# EAGLE library part GW1NSR-4C (library Gowin)
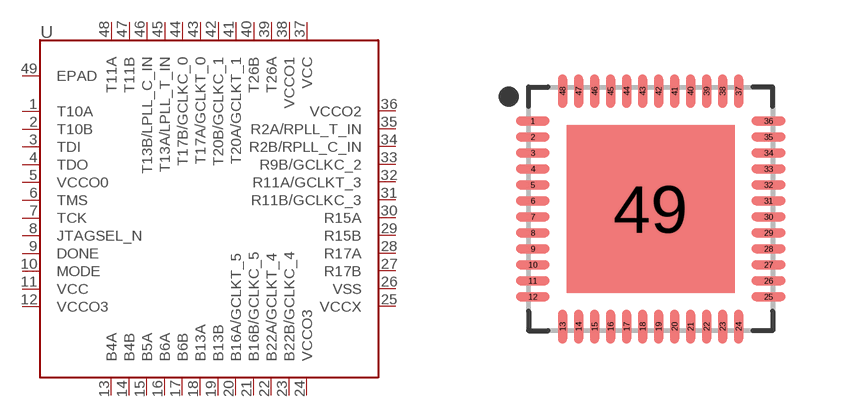
[diagram p0: symbol with the pads of QFN40P600X600X80-49T420N; footprint QFN40P600X600X80-49T420N]

Designator prefix -

## GW1NSR-4CQN48P  [QFN40P600X600X80-49T420N]
1  T10A
2  T10B
3  TDI
4  TDO
5  VCCO0
6  TMS
7  TCK
8  JTAGSEL_N
9  DONE
10  MODE
11  VCC
12  VCCO3
13  B4A
14  B4B
15  B5A
16  B6A
17  B6B
18  B13A
19  B13B
20  B16A/GCLKT_5
21  B16B/GCLKC_5
22  B22A/GCLKT_4
23  B22B/GCLKC_4
24  VCCO3
25  VCCX
26  VSS
27  R17B
28  R17A
29  R15B
30  R15A
31  R11B/GCLKC_3
32  R11A/GCLKT_3
33  R9B/GCLKC_2
34  R2B/RPLL_C_IN
35  R2A/RPLL_T_IN
36  VCCO2
37  VCC
38  VCCO1
39  T26A
40  T26B
41  T20A/GCLKT_1
42  T20B/GCLKC_1
43  T17A/GCLKT_0
44  T17B/GCLKC_0
45  T13A/LPLL_T_IN
46  T13B/LPLL_C_IN
47  T11B
48  T11A
49  EPAD

## Footprint QFN40P600X600X80-49T420N (pad centres in mm)
48-QFN, 0.40 mm pitch, 6.00 X 6.00 X 0.80 mm body, 4.20 X 4.20 mm thermal pad 48-pin QFN package with 0.40 mm pitch with body size 6.00 X 6.00 X 0.80 mm and thermal pad size 4.20 X 4.20 mm
smd 0.838 x 0.22: 1 -2.946,2.2; 2 -2.946,1.8; 3 -2.946,1.4; 4 -2.946,1; 5 -2.946,0.6; 6 -2.946,0.2; 7 -2.946,-0.2; 8 -2.946,-0.6; 9 -2.946,-1; 10 -2.946,-1.4; 11 -2.946,-1.8; 12 -2.946,-2.2; 25 2.946,-2.2; 26 2.946,-1.8; 27 2.946,-1.4; 28 2.946,-1; 29 2.946,-0.6; 30 2.946,-0.2; 31 2.946,0.2; 32 2.946,0.6; 33 2.946,1; 34 2.946,1.4; 35 2.946,1.8; 36 2.946,2.2
smd 0.22 x 0.838: 13 -2.2,-2.946; 14 -1.8,-2.946; 15 -1.4,-2.946; 16 -1,-2.946; 17 -0.6,-2.946; 18 -0.2,-2.946; 19 0.2,-2.946; 20 0.6,-2.946; 21 1,-2.946; 22 1.4,-2.946; 23 1.8,-2.946; 24 2.2,-2.946; 37 2.2,2.946; 38 1.8,2.946; 39 1.4,2.946; 40 1,2.946; 41 0.6,2.946; 42 0.2,2.946; 43 -0.2,2.946; 44 -0.6,2.946; 45 -1,2.946; 46 -1.4,2.946; 47 -1.8,2.946; 48 -2.2,2.946
smd 4.2 x 4.2: 49 0,0